# Altium schematic symbol library Schlib1.SchLib: 1 symbol
Pins are listed as number, name and electrical type; pins without a type are passive.

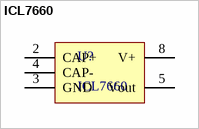
[diagram p0: symbol ICL7660]

## ICL7660
designator U?
footprint RR_SO-8 (SOIC, 8-Leads, Body 4.9x3.9mm, Pitch 1.27mm, IPC Low Density)
pins: 2 CAP+, 3 GND, 4 CAP-, 5 Vout, 8 V+